# EAGLE library part E48SC12030NRFH (library E48SC12030NRFH)
Isolated DC/DC Converters - Through Hole DC/DC Converter, 1/8 Brick, 12Vout, 30A Source: Datasheet <https://filecenter.deltaww.com/products/download/01/0102/datasheet/DS_E48SC12030.pdf>
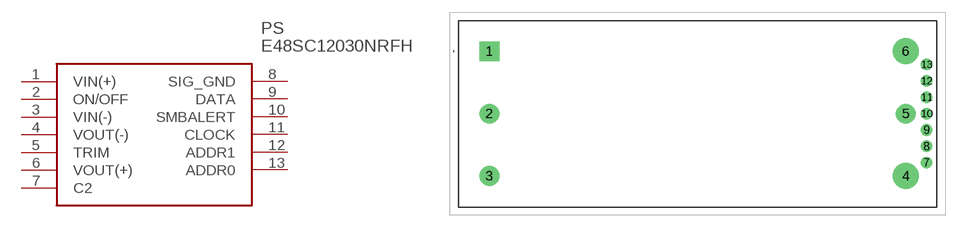
[diagram p0: symbol with the pads of E48SC12030NRFH; footprint E48SC12030NRFH]

Designator prefix PS

## E48SC12030NRFH (Description: Isolated DC/DC Converters - Through Hole DC/DC Converter, 1/8 Brick, 12Vout, 30A; Height: 13.2mm; Manufacturer_Name: Delta Electronics; Manufacturer_Part_Number: E48SC12030NRFH)  [E48SC12030NRFH]
1  VIN(+)
2  ON/OFF
3  VIN(-)
4  VOUT(-)
5  TRIM
6  VOUT(+)
7  C2
8  SIG_GND
9  DATA
10  SMBALERT
11  CLOCK
12  ADDR1
13  ADDR0

## Footprint E48SC12030NRFH (pad centres in mm)
13-DIP Module
drill 1.6 pad 2.4 square: 1 0,0
drill 1.6 pad 2.4: 2 0,-7.62; 3 0,-15.24; 5 50.8,-7.62
drill 2.1 pad 3.15: 4 50.8,-15.24; 6 50.8,0
drill 0.9 pad 1.4: 7 53.34,-13.62; 8 53.34,-11.62; 9 53.34,-9.62; 10 53.34,-7.62; 11 53.34,-5.62; 12 53.34,-3.62; 13 53.34,-1.62